# Altium schematic symbol library BD6221F.SchLib: 1 symbol
Pins are listed as number, name and electrical type; pins without a type are passive.

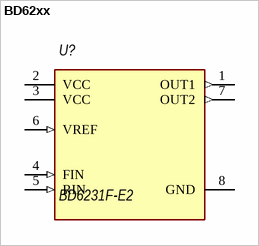
[diagram p0: symbol BD62xx]

## BD62xx
designator U?, comment BD6231F-E2
Motor/Motion/Ignition Controllers & Drivers H-BRIDGE 36V max 1 Chan 1.0A 1.5ohm
footprint SOP8
pins: 1 OUT1 (out), 2 VCC (power), 3 VCC (power), 4 FIN (in), 5 RIN (in), 6 VREF (in), 7 OUT2 (out), 8 GND (power)